# EAGLE library part DS18S20Z+T&R (library DS18s20)
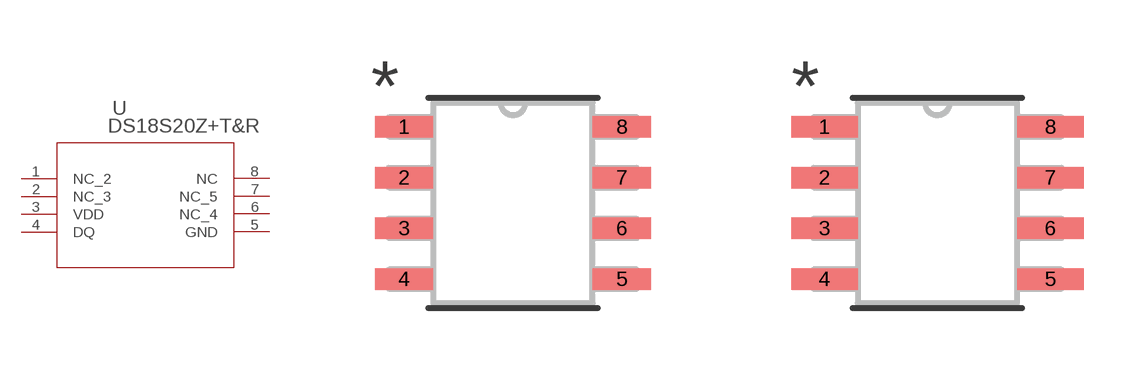
[diagram p0: symbol with the pads of 21-0041B_8_MXM; footprints 21-0041B_8_MXM, 21-0041B_8_MXM-M]

Designator prefix U

## DS18S20Z+T&R21-0041B_8_MXM (Copyright: Copyright (C) 2025 Ultra Librarian. All rights reserved.; Manufacturer_Part_Number: DS18S20Z+T&R; Mfr_Name: Analog Devices / Maxim Integrated)  [21-0041B_8_MXM]
1  NC_2  nc
2  NC_3  nc
3  VDD  pwr
4  DQ
5  GND  pwr
6  NC_4  nc
7  NC_5  nc
8  NC  nc

## DS18S20Z+T&R21-0041B_8_MXM-M (Copyright: Copyright (C) 2025 Ultra Librarian. All rights reserved.; Manufacturer_Part_Number: DS18S20Z+T&R; Mfr_Name: Analog Devices / Maxim Integrated)  [21-0041B_8_MXM-M]
Pads as for 21-0041B_8_MXM

## DS18S20Z+T&R21-0041B_8_MXM-L (Copyright: Copyright (C) 2025 Ultra Librarian. All rights reserved.; Manufacturer_Part_Number: DS18S20Z+T&R; Mfr_Name: Analog Devices / Maxim Integrated)  [21-0041B_8_MXM-L]
Pads as for 21-0041B_8_MXM

## Footprint 21-0041B_8_MXM (pad centres in mm)
smd 1.46 x 0.533: 1 -2.724,1.905; 2 -2.724,0.635; 3 -2.724,-0.635; 4 -2.724,-1.905; 5 2.724,-1.905; 6 2.724,-0.635; 7 2.724,0.635; 8 2.724,1.905

## Footprint 21-0041B_8_MXM-M (pad centres in mm)
smd 1.664 x 0.533: 1 -2.826,1.905; 2 -2.826,0.635; 3 -2.826,-0.635; 4 -2.826,-1.905; 5 2.826,-1.905; 6 2.826,-0.635; 7 2.826,0.635; 8 2.826,1.905

## Footprint 21-0041B_8_MXM-L (pad centres in mm)
smd 1.257 x 0.483: 1 -2.623,1.905; 2 -2.623,0.635; 3 -2.623,-0.635; 4 -2.623,-1.905; 5 2.623,-1.905; 6 2.623,-0.635; 7 2.623,0.635; 8 2.623,1.905